# Altium schematic symbol library BGC_LSW_Lib.SchLib: 21 symbols
Pins are listed as number, name and electrical type; pins without a type are passive.

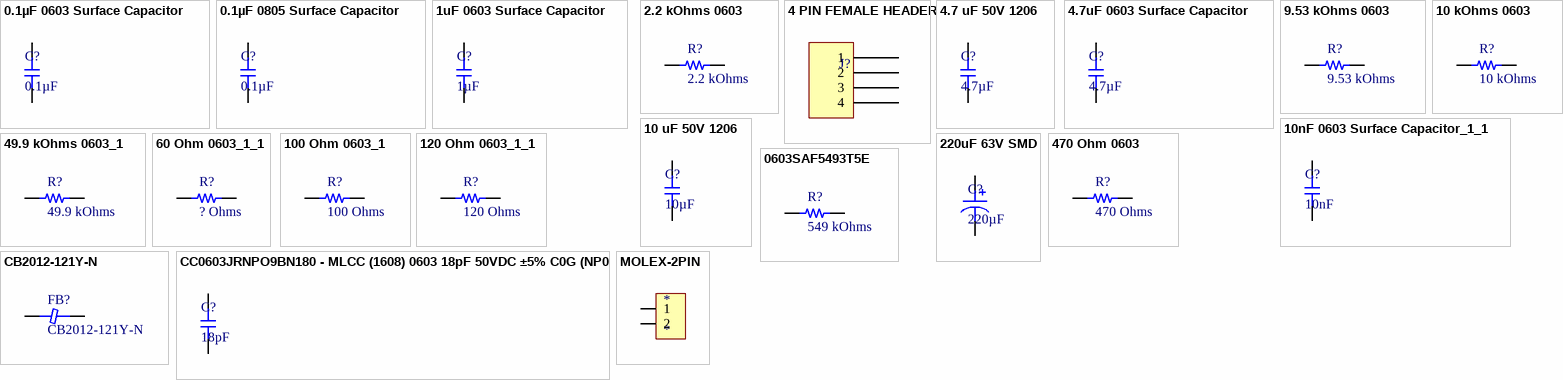
[diagram p0: symbols 0.1µF 0603 Surface Capacitor to MOLEX-2PIN]

## 0.1µF 0603 Surface Capacitor
designator C?, comment 0.1µF
0.1nF 0603 Surface Capacitor
footprint 0603_Footprint
pins: 1, 2

## 0.1µF 0805 Surface Capacitor
designator C?, comment 0.1µF
0.1nF 0805 Surface Capacitor_1_1_1
footprint 0805
pins: 1, 2

## 1uF 0603 Surface Capacitor
designator C?, comment 1µF
1uF 0603 Surface Capacitor
footprint 0603_Footprint
pins: 1, 2

## 2.2 kOhms 0603
designator R?, comment 2.2 kOhms
2.2 kOhms 0603
footprint 0603_RES
pins: 1, 2

## 4 PIN FEMALE HEADER
designator J?  (value not drawn)
footprint 4P_HEADER
pins: 1, 2, 3, 4

## 4.7 uF 50V 1206
designator C?, comment 4.7µF
4.7 uF 50V 1206
footprint 1206_10uF
pins: 1, 2

## 4.7uF 0603 Surface Capacitor
designator C?, comment 4.7µF
4.7uF 0603 Surface Capacitor
footprint 0603_Footprint
pins: 1, 2

## 9.53 kOhms 0603
designator R?, comment 9.53 kOhms
9.53 kOhms 0603
footprint 0603_RES
pins: 1, 2

## 10 kOhms 0603
designator R?, comment 10 kOhms
10 kOhms 0603
footprint 0603_RES
pins: 1, 2

## 10 uF 50V 1206
designator C?, comment 10µF
10 uF 50V 1206
footprint 1206_10uF
pins: 1, 2

## 10nF 0603 Surface Capacitor_1_1
designator C?, comment 10nF
10nF 0603 Surface Capacitor
footprint 0603_Footprint
pins: 1, 2

## 49.9 kOhms 0603_1
designator R?, comment 49.9 kOhms
49.9 kOhms 0603
footprint 0603_RES
pins: 1, 2

## 60 Ohm 0603_1_1
designator R?, comment ? Ohms
60 Ohm 0603
footprint 0603_RES
pins: 1, 2

## 100 Ohm 0603_1
designator R?, comment 100 Ohms
100 Ohm 0603
footprint 0603_RES
pins: 1, 2

## 120 Ohm 0603_1_1
designator R?, comment 120 Ohms
120 Ohm 0603
footprint 0603_RES
pins: 1, 2

## 220uF 63V SMD
designator C?, comment 220µF
220uF 63V SMD
footprint CAPAE111104X100M (Aluminum Electrolytic Capacitor, Body 10,40x10,40x10,00mm, IPC Low Density)
pins: 1, 2

## 470 Ohm 0603
designator R?, comment 470 Ohms
470 Ohm 0603
footprint 0603_RES
pins: 1, 2

## 0603SAF5493T5E
designator R?, comment 549 kOhms
0805 549 kOhms 5% 1/8W-S 100PPM
footprint 0603_RES
pins: 1, 2

## CB2012-121Y-N
designator FB?
footprint Inductor-0603
pins: 1, 2

## CC0603JRNPO9BN180 - MLCC (1608) 0603 18pF 50VDC ±5% C0G (NP0)
designator C?, comment 18pF
CC0603JRNPO9BN180 - MLCC (1608) 0603 18pF 50VDC ±5% C0G (NP0)
footprint 0603_Footprint
pins: 1, 2

## MOLEX-2PIN
designator *
footprint MOLEX2MM2PIN
pins: 1, 2